# Altium integrated library WS-TASU SMD Tact Switch 4.7X3.5 mm side push.IntLib: 2 symbols
Pins are listed as number, name and electrical type; pins without a type are passive.

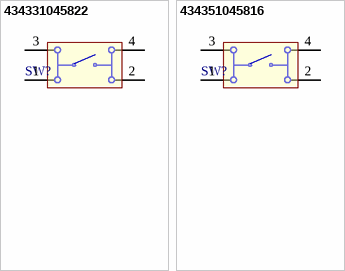
[diagram p0: symbols 434331045822 to 434351045816]

## 434331045822
designator SW?
WS-TASU SMD Tact Switch 4.7X3.5 mm side push; PartNumber: 434331045822; NoPins: 04; PackageReference: 434331045822; ComponentLink1Description: Manufacturer URL; ComponentLink1URL: http://www.we-online.com; ComponentLink2Description: Datasheet; ComponentLink2URL: http://katalog.we-online.de/em/datasheet/434331045822.pdf
footprint 434331045822 (4.7*3.5mm side push type,SMD, height 1.65mm, black actuator, 220gf, T&R)
pins: 1, 2, 3, 4

## 434351045816
designator SW?
WS-TASU SMD Tact Switch 4.7X3.5 mm side push; PartNumber: 434351045816; NoPins: 04; PackageReference: 434351045816; ComponentLink1Description: Manufacturer URL; ComponentLink1URL: http://www.we-online.com; ComponentLink2Description: Datasheet; ComponentLink2URL: http://katalog.we-online.de/em/datasheet/434351045816.pdf
footprint 434351045816 (4.7*3.5mm side push type, SMD, height 1.65mm, white actuator, 160gf, T&R)
pins: 1, 2, 3, 4